# Altium footprint library AB_SF.PcbLib: 43 footprints (part 3 of 3)
Each footprint in its own frame and in the unit in brackets; x right, y up, seen from the top. Pads: shape width x height; smd on the part's side, far side on the other; paste and mask are expansions set on the pad; w line width, h text height; cw(c..) or ccw(c..) is an arc to the next point about the centre after c.
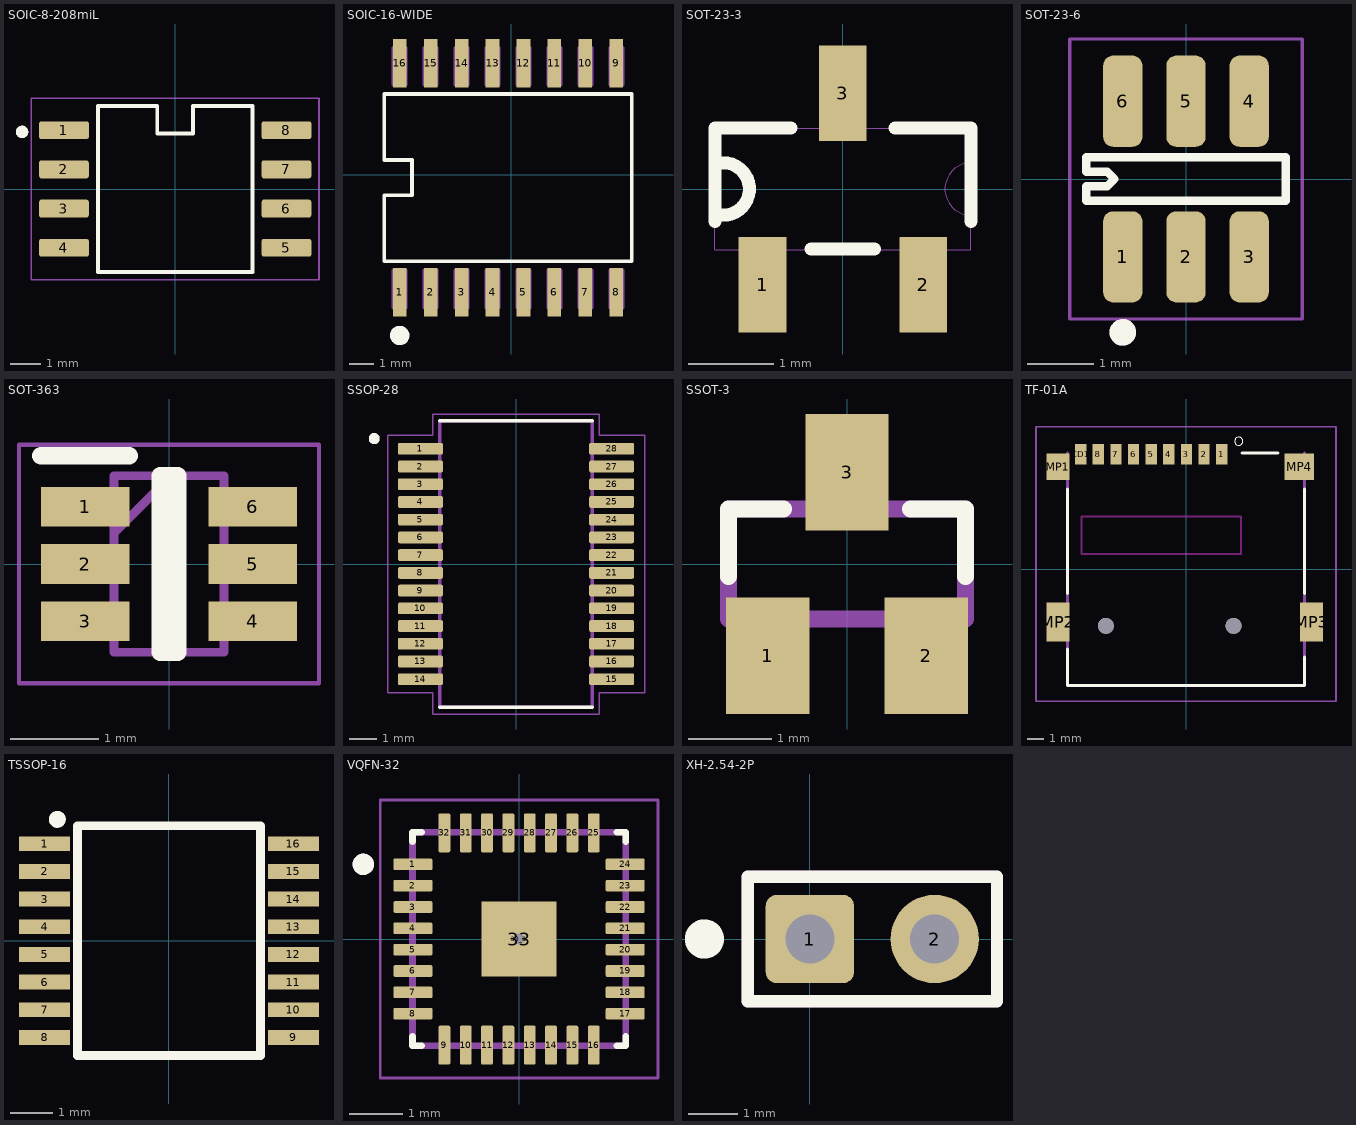
[diagram p2: the footprints below, top view; thin cyan lines are the x and y axes]

## SOIC-8-208miL [mm]
pads (8):
  rrect25% 1.61x0.58 smd: 1(-3.605,1.905) 2(-3.605,0.635) 3(-3.605,-0.635) 4(-3.605,-1.905) 5(3.605,-1.905) 6(3.605,-0.635) 7(3.605,0.635) 8(3.605,1.905)
Top Overlay:
  circle w0.2: c-4.961,1.85 r0.1
  lines w0.127: -2.5,-2.69 -2.5,2.69 -1.25,2.69 -0.583,2.69 -0.583,1.8 0.582,1.8 0.582,2.69 1.25,2.69 2.5,2.69 2.5,-2.69 -2.5,-2.69
Mechanical 13:
  circle w0.2: c-4.961,1.85 r0.1
Mechanical 15:
  lines w0.05: -4.66,-2.94 -4.66,2.94 4.66,2.94 4.66,-2.94 -4.66,-2.94
3D body "step_temp.STEP": height 2.16, standoff 0, extent -3.95,-2.64 3.95,2.64

## SOIC-16-WIDE [mil]
pads (16):
  rect 22x78 smd: 1(-180,-190) 2(-130,-190) 3(-80,-190) 4(-30,-190) 5(20,-190) 6(70,-190) 7(120,-190) 8(170,-190) 9(170,180) 10(120,180) 11(70,180) 12(20,180) 13(-30,180) 14(-80,180) 15(-130,180) 16(-180,180)
Top Overlay:
  lines w6: -205,-140 -205,-33.5 -160,-33.5 -160,23.5 -205,23.5 -205,130 195,130 195,-140 -205,-140
  lines w20: -179.35,-254.37 ccw(c-180,-260) -178.31,-254.59
Mechanical 13:
  lines w6: -190,-215 -170,-215 -170,-155 -190,-155 -190,-215 ; -190,145 -190,205 -170,205 -170,145 -190,145 ; -140,-215 -120,-215 -120,-155 -140,-155 -140,-215 ; -140,145 -140,205 -120,205 -120,145 -140,145 ; -90,-215 -70,-215 -70,-155 -90,-155 -90,-215 ; -90,145 -90,205 -70,205 -70,145 -90,145 ; -40,-215 -20,-215 -20,-155 -40,-155 -40,-215 ; -40,145 -40,205 -20,205 -20,145 -40,145 ; 10,-215 30,-215 30,-155 10,-155 10,-215 ; 10,145 10,205 30,205 30,145 10,145 ; 60,-215 80,-215 80,-155 60,-155 60,-215 ; 60,145 60,205 80,205 80,145 60,145 ; 110,-215 130,-215 130,-155 110,-155 110,-215 ; 110,145 110,205 130,205 130,145 110,145 ; 160,-215 180,-215 180,-155 160,-155 160,-215 ; 160,145 160,205 180,205 180,145 160,145
3D body "ADM2485BRWZ.STEP": height 104.33, standoff 0, extent -207.76,-208.25 197.76,198.25

## SOT-23-3 [mil]
pads (3):
  rect 22x44 smd: 1(-37,-44) 2(37,-44) 3(0,44)
Top Overlay:
  lines w6: -59,-15 -59,28 -24,28 ; -55.33,-12.07 ccw(c-55.12,0) -55.12,12.07 ; -14.57,-27.56 14.57,-27.56 ; 24,28 59,28 59,12 59,-15
Mechanical 13:
  lines w0: -47,-28 -47,-49 -27,-49 -27,-28 ; -47,-28 -27,-28 ; -47,-28 -59,-28 -59,28 -10,28 ; -27,-28 27,-28 ; -10,28 -10,49 10,49 10,28 ; -10,28 10,28 ; 10,28 59,28 59,12 ; 27,-28 27,-49 47,-49 47,-28 ; 27,-28 47,-28 ; 47,-28 59,-28 59,-12 ; 59,-12 cw(c59,0) 59,12 ; 59,-12 59,12
3D body "step_temp.STEP": height 45.28, standoff 0, extent -57.09,-47.24 57.08,47.25

## SOT-23-6 [mm]
height 1.45
pads (6):
  rrect50% 0.59x1.37 smd: 1(-0.95,-1.17) 2(0,-1.17) 3(0.95,-1.17) 4(0.95,1.17) 5(0,1.17) 6(-0.95,1.17)
Top Overlay:
  circle w0.2: c-0.95,-2.305 r0.1
  lines w0.127: -1.5,-0.325 1.5,-0.325 1.5,0.325 -1.5,0.325 -1.5,0.106 -1.181,0.106 -1.075,0 -1.181,-0.106 -1.5,-0.106 -1.5,-0.325
Mechanical 13:
  circle w0.2: c-0.95,-2.305 r0.1
Mechanical 15:
  lines w0.05: -1.75,-2.105 1.75,-2.105 1.75,2.105 -1.75,2.105 -1.75,-2.105
3D body "step_temp.STEP": height 1.45, standoff 0, extent -1.45,-1.4 1.45,1.4

## SOT-363 [mm]
pads (6):
  rect 1x0.45 smd: 1(-0.95,0.65) 2(-0.95,0) 3(-0.95,-0.65) 4(0.95,-0.65) 5(0.95,0) 6(0.95,0.65)
Top Overlay:
  lines w0.2: -1.45,1.225 -0.45,1.225 ; -0.1,-1 -0.1,1 0.1,1 0.1,-1 -0.1,-1
Mechanical 13:
  lines w0.1: -0.625,0.35 0.025,1 ; -0.625,-1 -0.625,1 0.625,1 0.625,-1 -0.625,-1
Mechanical 15:
  lines w0.05: -1.7,-1.35 -1.7,1.35 1.7,1.35 1.7,-1.35 -1.7,-1.35
3D body "BSS138PS,115.stp": height 0.95, standoff 0, extent -1.052,-1.061 1.048,1.089

## SSOP-28 [mm]
pads (28):
  rrect30% 1.651x0.432 smd: 1(-3.505,4.225) 2(-3.505,3.575) 3(-3.505,2.925) 4(-3.505,2.275) 5(-3.505,1.625) 6(-3.505,0.975) 7(-3.505,0.325) 8(-3.505,-0.325) 9(-3.505,-0.975) 10(-3.505,-1.625) 11(-3.505,-2.275) 12(-3.505,-2.925) 13(-3.505,-3.575) 14(-3.505,-4.225) 15(3.505,-4.225) 16(3.505,-3.575) 17(3.505,-2.925) 18(3.505,-2.275) 19(3.505,-1.625) 20(3.505,-0.975) 21(3.505,-0.325) 22(3.505,0.325) 23(3.505,0.975) 24(3.505,1.625) 25(3.505,2.275) 26(3.505,2.925) 27(3.505,3.575) 28(3.505,4.225)
Top Overlay:
  circle w0.2: c-5.2,4.6 r0.1
  lines w0.127: -2.8,-5.25 2.8,-5.25 ; -2.8,5.25 2.8,5.25
Mechanical 13:
  circle w0.2: c-5.2,4.6 r0.1
  lines w0.127: -2.8,-5.25 2.8,-5.25 2.8,5.25 -2.8,5.25 -2.8,-5.25
Mechanical 15:
  lines w0.05: -4.71,-4.72 -3.05,-4.72 -3.05,-5.5 3.05,-5.5 3.05,-4.72 4.71,-4.72 4.71,4.72 3.05,4.72 3.05,5.5 -3.05,5.5 -3.05,4.72 -4.71,4.72 -4.71,-4.72
3D body "step_temp.STEP": height 2, standoff 0, extent -3.9,-5.1 3.9,5.1

## SSOT-3 [mm]
pads (3):
  rect 1x1.4 smd: 1(-0.95,-1.1) 2(0.95,-1.1) 3(0,1.1)
Top Overlay:
  lines w0.203: -1.422,-0.152 -1.422,0.66 -0.764,0.66 ; 0.764,0.66 1.422,0.66 1.422,-0.152
Mechanical 13:
  region: 0.229,0.712 -0.229,0.712 -0.229,1.295 0.229,1.295
  region: 1.168,-1.298 0.712,-1.298 0.712,-0.711 1.168,-0.711
  region: -0.711,-1.297 -1.169,-1.297 -1.169,-0.711 -0.711,-0.711
  lines w0.203: -1.422,-0.66 1.422,-0.66 1.422,0.66 -1.422,0.66 -1.422,-0.66
3D body "step_temp.STEP": height 1.12, standoff 0, extent -1.46,-1.255 1.46,1.255

## TF-01A [mm]
pads (15):
  rect 0.7x1.3 smd: 1(2.23,7.174) 2(1.13,7.174) 3(0.03,7.174) 4(-1.07,7.174) 5(-2.17,7.174) 6(-3.27,7.174) 7(-4.37,7.174) 8(-5.47,7.174) CD1(-6.57,7.174)
  rect 1.448x1.651 smd: MP1(-7.989,6.4)
  rect 1.448x2.438 smd: MP2(-7.989,-3.3) MP3(7.836,-3.3)
  rect 1.854x1.651 smd: MP4(7.061,6.4)
  round 1 hole 1 unplated: ""(-5.004,-3.531) ""(2.972,-3.531)
Top Overlay:
  circle w0: c3.296,7.984 r0.254
  lines w0.203: -7.4,-5 -7.399,-7.25 7.399,-7.263 7.4,-5.5 ; -7.4,-1.5 -7.4,5 ; 3.5,7.25 5.738,7.25 ; 7.4,-1.5 7.4,5
Keep-Out Layer:
  lines w0.127: -6.528,0.94 -6.528,3.302 3.429,3.302 3.429,0.94 -6.528,0.94
Mechanical 13:
  lines w0.1: -9.36,-8.25 -9.36,8.9 9.36,8.9 9.36,-8.25 -9.36,-8.25
  lines w0.2: -7.4,7.25 -7.4,-7.25 7.4,-7.25 7.4,7.25
3D body "step_temp.STEP": height 2, standoff -0.45, extent -8.066,-7.566 8.034,7.634

## TSSOP-16 [mm]
pads (16):
  rect 1.2x0.35 smd: 1(-2.925,2.275) 2(-2.925,1.625) 3(-2.925,0.975) 4(-2.925,0.325) 5(-2.925,-0.325) 6(-2.925,-0.975) 7(-2.925,-1.625) 8(-2.925,-2.275) 9(2.925,-2.275) 10(2.925,-1.625) 11(2.925,-0.975) 12(2.925,-0.325) 13(2.925,0.325) 14(2.925,0.975) 15(2.925,1.625) 16(2.925,2.275)
Top Overlay:
  circle w0.2: c-2.625,2.85 r0.1
  lines w0.203: -2.15,-2.7 2.15,-2.7 2.15,2.7 -2.15,2.7 -2.15,-2.7
3D body "step_temp.STEP": height 1.1, standoff 0, extent -3.2,-2.5 3.2,2.5

## VQFN-32 [mm]
pads (34):
  rrect25% 0.73x0.22 smd: 1(-1.99,1.4) 2(-1.99,1) 3(-1.99,0.6) 4(-1.99,0.2) 5(-1.99,-0.2) 6(-1.99,-0.6) 7(-1.99,-1) 8(-1.99,-1.4) 17(1.99,-1.4) 18(1.99,-1) 19(1.99,-0.6) 20(1.99,-0.2) 21(1.99,0.2) 22(1.99,0.6) 23(1.99,1) 24(1.99,1.4)
  rrect25% 0.22x0.73 smd: 9(-1.4,-1.99) 10(-1,-1.99) 11(-0.6,-1.99) 12(-0.2,-1.99) 13(0.2,-1.99) 14(0.6,-1.99) 15(1,-1.99) 16(1.4,-1.99) 25(1.4,1.99) 26(1,1.99) 27(0.6,1.99) 28(0.2,1.99) 29(-0.2,1.99) 30(-0.6,1.99) 31(-1,1.99) 32(-1.4,1.99)
  rect 1.4x1.4 smd paste-2: 33(0,0)
  round 0.4 hole 0.2 mask+0: 33_1(0,0)
Top Overlay:
  circle w0.2: c-2.92,1.4 r0.1
  lines w0.127: -2,-1.83 -2,-2 -1.83,-2 ; -2,1.83 -2,2 -1.83,2 ; 1.83,-2 2,-2 2,-1.83 ; 1.83,2 2,2 2,1.83
Top Paste:
  region: 0.44,-0.44 -0.44,-0.44 -0.44,0.44 0.44,0.44
Mechanical 13:
  circle w0.2: c-2.92,1.4 r0.1
  lines w0.127: -2,-2 2,-2 2,2 -2,2 -2,-2
Mechanical 15:
  lines w0.05: -2.605,-2.605 2.605,-2.605 2.605,2.605 -2.605,2.605 -2.605,-2.605
3D body "step_temp.STEP": height 1, standoff 0, extent -2,-2 2,2

## XH-2.54-2P [mm] "PinHeader 1x2 TH Pitch 2.54mm"
height 9.5
pads (2):
  rrect25% 1.8x1.8 hole 1: 1(0,0)
  round 1.8 hole 1: 2(2.54,0)
Top Overlay:
  circle w0.5: c-2.15,0 r0.15
  lines w0.254: 1.27,1.27 -1.27,1.27 ; -1.27,1.27 3.81,1.27 3.81,-1.27 -1.27,-1.27 -1.27,1.27
Mechanical 3:
  lines w0.254: 1.27,1.27 -1.27,1.27 ; -1.27,1.27 3.81,1.27 3.81,-1.27 -1.27,-1.27 -1.27,1.27
3D body "Pin Header 1x2 TH Pitch 2.54mm.stp": height 9.5, standoff -3.2, extent -1.27,-1.27 3.81,1.27